# EAGLE library part BNO055 (library BNO055)
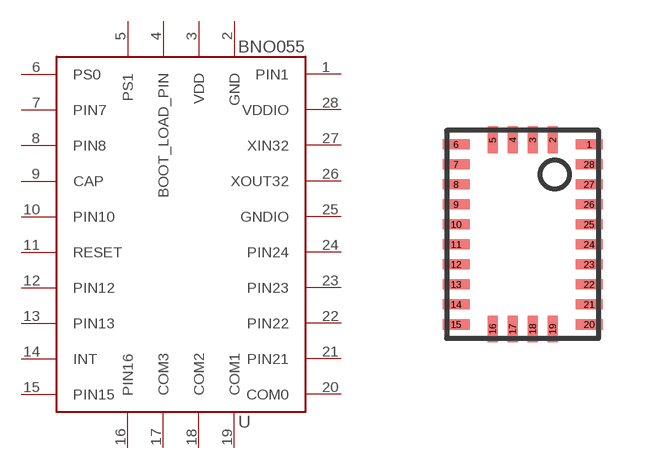
[diagram p0: symbol with the pads of BNO055; footprint BNO055]

Designator prefix -

## BNO055A  [BNO055]
1  PIN1
2  GND
3  VDD
4  BOOT_LOAD_PIN
5  PS1
6  PS0
7  PIN7
8  PIN8
9  CAP
10  PIN10
11  RESET
12  PIN12
13  PIN13
14  INT
15  PIN15
16  PIN16
17  COM3
18  COM2
19  COM1
20  COM0
21  PIN21
22  PIN22
23  PIN23
24  PIN24
25  GNDIO
26  XOUT32
27  XIN32
28  VDDIO

## Footprint BNO055 (pad centres in mm)
smd 0.675 x 0.25: 1 1.663,2.25; 6 -1.665,2.25; 7 -1.665,1.75; 8 -1.665,1.25; 9 -1.665,0.75; 10 -1.665,0.25; 11 -1.665,-0.25; 12 -1.665,-0.75; 13 -1.665,-1.25; 14 -1.665,-1.75; 15 -1.665,-2.25; 20 1.663,-2.25; 21 1.663,-1.75; 22 1.663,-1.25; 23 1.663,-0.75; 24 1.663,-0.25; 25 1.663,0.25; 26 1.663,0.75; 27 1.663,1.25; 28 1.663,1.75
smd 0.25 x 0.675: 2 0.75,2.362; 3 0.25,2.362; 4 -0.25,2.362; 5 -0.75,2.362; 16 -0.75,-2.362; 17 -0.25,-2.362; 18 0.25,-2.362; 19 0.75,-2.362